# Altium footprint library Converter_DCDC.PcbLib: 115 footprints (part 1 of 8)
Each footprint in its own frame and in the unit in brackets; x right, y up, seen from the top. Pads: shape width x height; smd on the part's side, far side on the other; paste and mask are expansions set on the pad; w line width, h text height; cw(c..) or ccw(c..) is an arc to the next point about the centre after c.
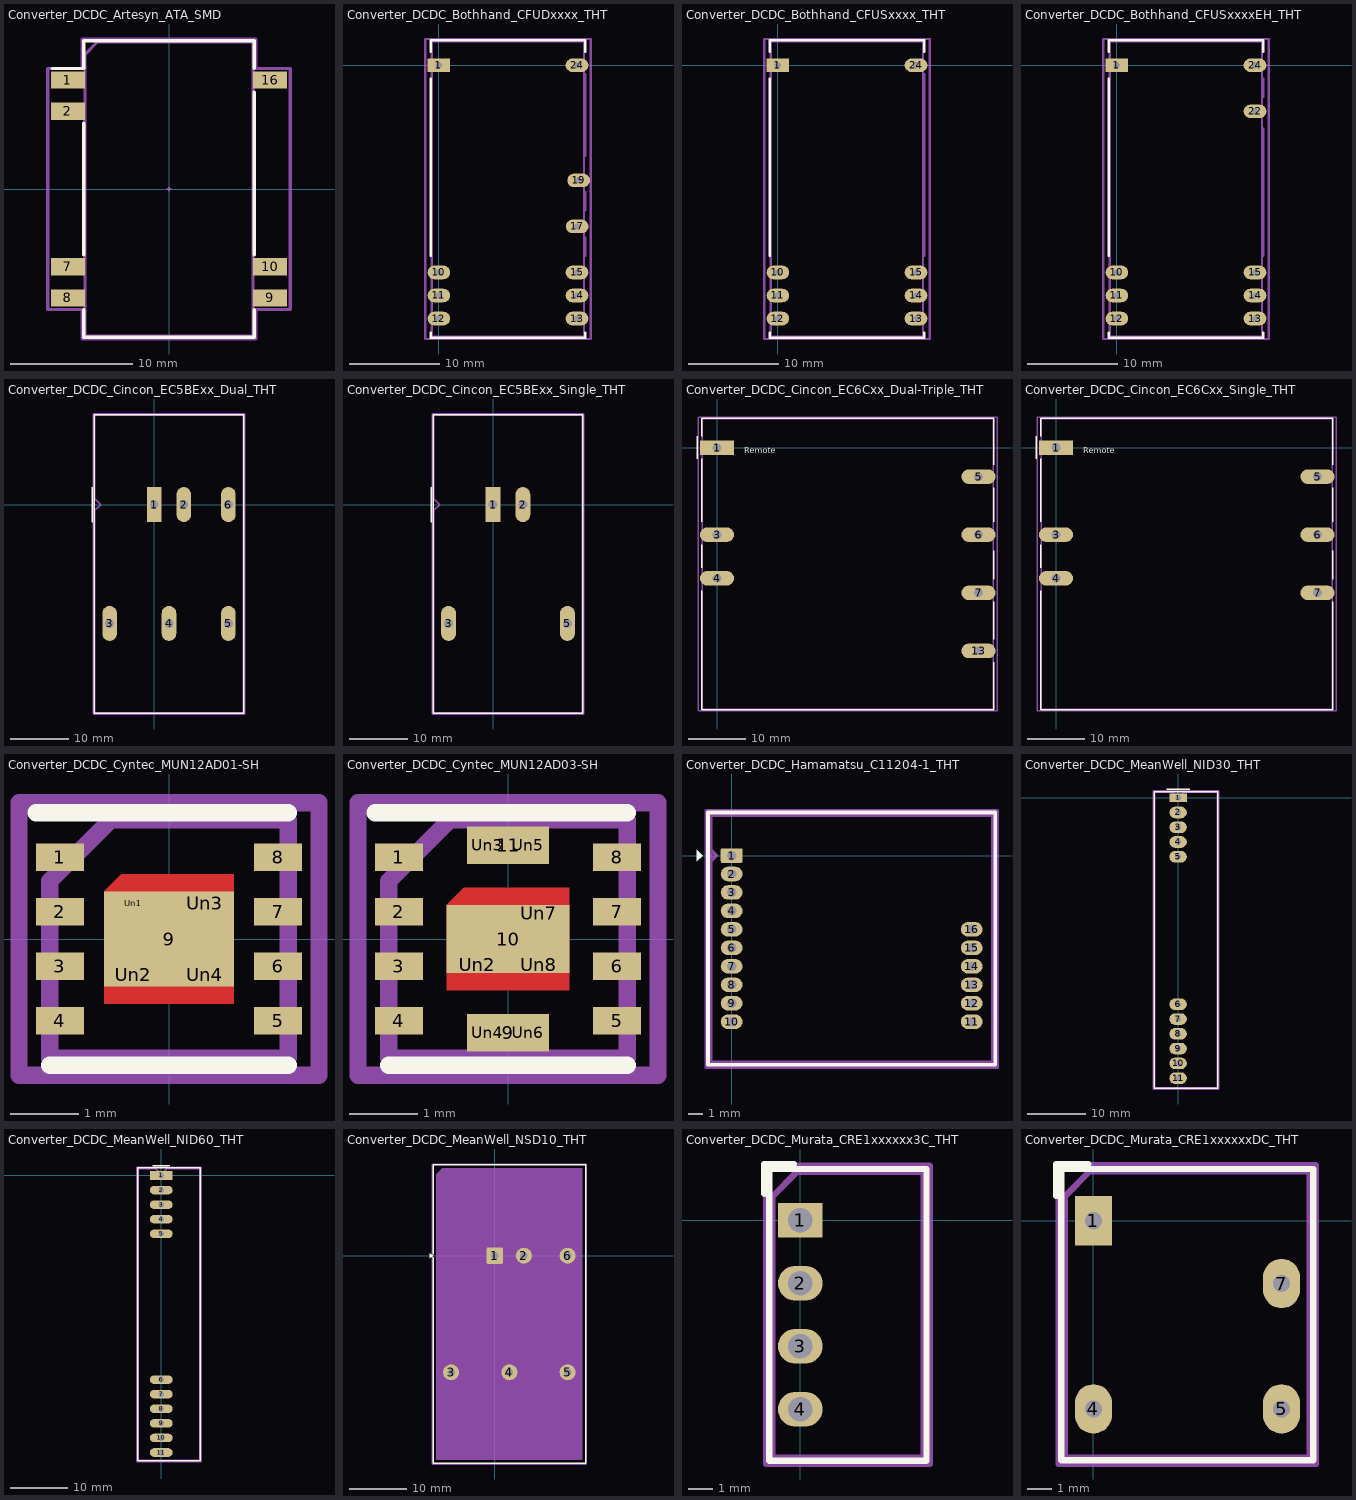
[diagram p0: the footprints below, top view; thin cyan lines are the x and y axes]

## Converter_DCDC_Artesyn_ATA_SMD [mm]
pads (7):
  rect 2.8x1.4 smd: 1(-8.25,8.89) 2(-8.25,6.35) 7(-8.25,-6.35) 8(-8.25,-8.89) 9(8.25,-8.89) 10(8.25,-6.35) 16(8.25,8.89)
F.SilkS:
  lines w0.254: -9.55,9.84 -6.96,9.84 -6.96,12.11 6.96,12.11 6.96,9.84 ; -6.96,-9.84 -6.96,-12.11 6.96,-12.11 6.96,-9.84 ; -6.96,-5.39 -6.96,5.4 ; 6.96,-5.4 6.96,7.93
Top Component Center:
  lines w0.127: -0.127,0 0.127,0 ; 0,-0.127 0,0.127
Top Assembly:
  lines w0.254: -6.85,-12 6.85,-12 6.85,12 -5.85,12 -6.85,11 -6.85,-12
  text "'.Designator'" at -4.047,-0.84 h1
Top Courtyard:
  lines w0.254: -9.9,-9.84 -7.1,-9.84 -7.1,-12.25 7.1,-12.25 7.1,-9.84 9.9,-9.84 9.9,9.84 7.1,9.84 7.1,12.25 -7.1,12.25 -7.1,9.84 -9.9,9.84 -9.9,-9.84
Top Designator:
  text ".Designator" at -7.618,-0.508 h1.52

## Converter_DCDC_Bothhand_CFUDxxxx_THT [mm]
pads (10):
  rect 2.5x1.5 hole 0.7: 1(0,0)
  rrect100% 2.5x1.5 hole 0.7: 10(0,-22.86) 11(0,-25.4) 12(0,-27.94) 13(15.24,-27.94) 14(15.24,-25.4) 15(15.24,-22.86) 17(15.26,-17.78) 19(15.42,-12.7) 24(15.24,0)
F.SilkS:
  lines w0.254: -0.9,-29.5 -0.9,-30.07 16.14,-30.07 16.14,-29.5 ; -0.9,-21 -0.9,-1.5 ; -0.9,1.5 -0.9,2.77 16.14,2.77 16.14,1.5
Top Assembly:
  lines w0.254: 16.02,-21 16.02,-19.5 ; 16.02,-16 16.02,-14.5 ; 16.14,-21 16.14,-19 ; 16.14,-16 16.14,-14 ; 16.14,-10 16.14,-1 ; -0.78,-29.95 16.02,-29.95 16.02,2.65 -0.78,2.65 -0.78,-29.95
  text "'.Designator'" at 3.573,-12.84 h1
Top Courtyard:
  lines w0.254: -1.5,-30.2 16.75,-30.2 16.75,2.9 -1.5,2.9 -1.5,-30.2
Top Designator:
  text ".Designator" at 0.007,-14.158 h1.52

## Converter_DCDC_Bothhand_CFUSxxxx_THT [mm]
pads (8):
  rect 2.5x1.5 hole 0.7: 1(0,0)
  rrect100% 2.5x1.5 hole 0.7: 10(0,-22.86) 11(0,-25.4) 12(0,-27.94) 13(15.24,-27.94) 14(15.24,-25.4) 15(15.24,-22.86) 24(15.24,0)
F.SilkS:
  lines w0.254: -0.9,-29.5 -0.9,-30.07 16.14,-30.07 16.14,-29.5 ; -0.9,-21 -0.9,-1.5 ; -0.9,1.5 -0.9,2.77 16.14,2.77 16.14,1.5
Top Assembly:
  lines w0.254: 16.02,-21 16.02,-19.5 ; 16.02,-16 16.02,-14.5 ; 16.14,-21 16.14,-1 ; -0.78,-29.95 16.02,-29.95 16.02,2.65 -0.78,2.65 -0.78,-29.95
  text "'.Designator'" at 3.573,-12.84 h1
Top Courtyard:
  lines w0.254: -1.5,-30.2 16.75,-30.2 16.75,2.9 -1.5,2.9 -1.5,-30.2
Top Designator:
  text ".Designator" at 0.007,-14.158 h1.52

## Converter_DCDC_Bothhand_CFUSxxxxEH_THT [mm]
pads (9):
  rect 2.5x1.5 hole 0.7: 1(0,0)
  rrect100% 2.5x1.5 hole 0.7: 10(0,-22.86) 11(0,-25.4) 12(0,-27.94) 13(15.24,-27.94) 14(15.24,-25.4) 15(15.24,-22.86) 22(15.24,-5.08) 24(15.24,0)
F.SilkS:
  lines w0.254: -0.9,-29.5 -0.9,-30.07 16.14,-30.07 16.14,-29.5 ; -0.9,-21 -0.9,-1.5 ; -0.9,1.5 -0.9,2.77 16.14,2.77 16.14,1.5
Top Assembly:
  lines w0.254: 16.02,-21 16.02,-19.5 ; 16.02,-16 16.02,-14.5 ; 16.14,-21 16.14,-7 ; 16.14,-3.5 16.14,-1.5 ; -0.78,-29.95 16.02,-29.95 16.02,2.65 -0.78,2.65 -0.78,-29.95
  text "'.Designator'" at 3.573,-12.84 h1
Top Courtyard:
  lines w0.254: -1.5,-30.2 16.75,-30.2 16.75,2.9 -1.5,2.9 -1.5,-30.2
Top Designator:
  text ".Designator" at 0.007,-14.158 h1.52

## Converter_DCDC_Cincon_EC5BExx_Dual_THT [mm]
pads (6):
  rect 2.5x6 hole 1.5: 1(0,0)
  rrect100% 2.5x6 hole 1.5: 2(5.08,0) 3(-7.62,-20.32) 4(2.54,-20.32) 5(12.7,-20.32) 6(12.7,0)
F.SilkS:
  lines w0.254: -10.61,-3 -10.61,3 ; -10.28,-35.68 15.36,-35.68 15.36,15.36 -10.28,15.36 -10.28,-35.68
Top Assembly:
  lines w0.254: -10.16,-35.56 15.24,-35.56 15.24,15.24 2.54,15.24 -10.16,15.24 -10.16,1 -9.16,0 -10.16,-1 -10.16,-35.56
  text "'.Designator'" at -1.417,-11.58 h1
Top Courtyard:
  lines w0.254: -10.41,-35.81 15.49,-35.81 15.49,15.49 -10.41,15.49 -10.41,-35.8
Top Designator:
  text ".Designator" at -5.178,-10.668 h1.52

## Converter_DCDC_Cincon_EC5BExx_Single_THT [mil]
pads (4):
  rect 100x236 hole 60: 1(0,0)
  rrect100% 100x236.22 hole 60: 2(200,0) 3(-300,-800) 5(500,-800)
F.SilkS:
  lines w10: -417.72,-118.11 -417.72,118.11 ; -404.72,-1404.72 604.72,-1404.72 604.72,604.72 -404.72,604.72 -404.72,-1404.72
Top Assembly:
  lines w10: -400,-1400 600,-1400 600,600 100,600 -400,600 -400,39.37 -360.63,0 -400,-39.37 -400,-1400
  text "'.Designator'" at -55.78,-455.92 h39.37
Top Courtyard:
  lines w10: -409.84,-1409.84 609.84,-1409.84 609.84,609.84 -409.84,609.84 -409.84,-1409.45
Top Designator:
  text ".Designator" at -203.84,-419.99 h60

## Converter_DCDC_Cincon_EC6Cxx_Dual-Triple_THT [mm]
pads (7):
  rect 5.999x2.54 hole 1.5: 1(0,0)
  rrect100% 6x2.54 hole 1.5: 3(0,-15.24) 4(0,-22.86) 6(45.72,-15.24) 7(45.72,-25.4) 13(45.72,-35.56)
  rrect100% 5.999x2.54 hole 1.5: 5(45.72,-5.08)
F.SilkS:
  lines w0.254: -3.5,-2 -3.5,2 ; -2.66,-25 -2.66,-45.88 48.38,-45.88 48.38,-37.5 ; -2.66,-21 -2.66,-17 ; -2.66,-13 -2.66,-2 ; -2.66,2 -2.66,5.16 48.38,5.16 48.38,-3 ; 48.38,-33.5 48.38,-27 ; 48.38,-23 48.38,-18 ; 48.38,-13 48.38,-7
  text "Remote" at 4.779,-1.041 h1
Top Assembly:
  lines w0.254: -2.54,-45.76 48.26,-45.76 48.26,5.04 -2.54,5.04 -2.54,1 -1.54,0 -2.54,-1 -2.54,-45.76
  text "'.Designator'" at 17.963,-20.47 h1
Top Courtyard:
  lines w0.254: -3.25,-46.01 48.95,-46.01 48.95,5.29 -3.25,5.29 -3.25,-46.01
Top Designator:
  text ".Designator" at 15.107,-20.868 h1.52

## Converter_DCDC_Cincon_EC6Cxx_Single_THT [mil]
pads (6):
  rect 236.2x100 hole 60: 1(0,0)
  rrect100% 236.22x100 hole 60: 3(0,-600) 4(0,-900) 6(1800,-600) 7(1800,-1000)
  rrect100% 236.2x100 hole 60: 5(1800,-200)
F.SilkS:
  lines w10: -137.8,-78.74 -137.8,78.74 ; -104.72,-984.25 -104.72,-1806.3 1904.72,-1806.3 1904.72,-1062.99 ; -104.72,-826.77 -104.72,-669.29 ; -104.72,-511.81 -104.72,-78.74 ; -104.72,78.74 -104.72,203.15 1904.72,203.15 1904.72,-118.11 ; 1904.72,-905.51 1904.72,-708.66 ; 1904.72,-511.81 1904.72,-275.59
  text "Remote" at 188.14,-40.97 h39.37
Top Assembly:
  lines w10: -100,-1801.57 1900,-1801.57 1900,198.43 -100,198.43 -100,39.37 -60.63,0 -100,-39.37 -100,-1801.57
  text "'.Designator'" at 707.21,-805.92 h39.37
Top Courtyard:
  lines w10: -127.95,-1811.42 1927.17,-1811.42 1927.17,208.27 -127.95,208.27 -127.95,-1811.42
Top Designator:
  text ".Designator" at 594.78,-821.57 h60

## Converter_DCDC_Cyntec_MUN12AD01-SH [mm]
pads (13):
  rect 0.7x0.4 smd: 1(-1.6,1.2) 2(-1.6,0.4) 3(-1.6,-0.4) 4(-1.6,-1.2) 5(1.6,-1.2) 6(1.6,-0.4) 7(1.6,0.4) 8(1.6,1.2)
  rect 1.9x1.4 smd: 9(0,0)
  rect 0.3x0.3 on Top Paste: Un1(-0.525,0.525)
  rect 0.75x0.75 on Top Paste: Un2(-0.525,-0.525) Un3(0.525,0.525) Un4(0.525,-0.525)
F.Cu:
  region: 0.95,-0.95 -0.95,-0.95 -0.95,0.7 -0.7,0.95 0.95,0.95
F.SilkS:
  lines w0.254: -1.95,1.85 1.75,1.85 ; -1.75,-1.85 1.75,-1.85
F.Paste:
  region: -0.15,0.15 -0.9,0.15 -0.9,0.65 -0.65,0.9 -0.15,0.9
F.Mask:
  region: 0.95,-0.95 -0.95,-0.95 -0.95,0.7 -0.7,0.95 0.95,0.95
Top Assembly:
  lines w0.254: -1.75,-1.75 1.75,-1.75 1.75,1.75 -0.85,1.75 -1.75,0.85 -1.75,-1.75
  text "'.Designator'" at -3.033,-0.628 h0.75
Top Courtyard:
  lines w0.254: -2.2,-2 2.2,-2 2.2,2 -2.2,2 -2.2,-2
Top Designator:
  text ".Designator" at -7.728,-0.508 h1.52

## Converter_DCDC_Cyntec_MUN12AD03-SH [mm]
pads (19):
  rect 0.7x0.4 smd: 1(-1.6,1.2) 2(-1.6,0.4) 3(-1.6,-0.4) 4(-1.6,-1.2) 5(1.6,-1.2) 6(1.6,-0.4) 7(1.6,0.4) 8(1.6,1.2)
  rect 1.2x0.55 smd: 9(0,-1.375) 11(0,1.375)
  rect 1.8x1 smd: 10(0,0)
  rect 0.75x0.1 on Top Paste: Un1(-0.45,0.375)
  rect 0.75x0.6 on Top Paste: Un2(-0.45,-0.375) Un7(0.45,0.375) Un8(0.45,-0.375)
  rect 0.45x0.55 on Top Paste: Un3(-0.3,1.375) Un4(-0.3,-1.375) Un5(0.3,1.375) Un6(0.3,-1.375)
F.Cu:
  region: 0.9,-0.75 -0.9,-0.75 -0.9,0.5 -0.65,0.75 0.9,0.75
F.SilkS:
  lines w0.254: -1.95,1.85 1.75,1.85 ; -1.75,-1.85 1.75,-1.85
F.Paste:
  region: -0.075,0.075 -0.825,0.075 -0.825,0.425 -0.575,0.675 -0.075,0.675
F.Mask:
  region: 0.9,-0.75 -0.9,-0.75 -0.9,0.5 -0.65,0.75 0.9,0.75
Top Assembly:
  lines w0.254: -1.75,-1.75 1.75,-1.75 1.75,1.75 -0.85,1.75 -1.75,0.85 -1.75,-1.75
  text "'.Designator'" at -3.033,-0.628 h0.75
Top Courtyard:
  lines w0.254: -2.2,-2 2.2,-2 2.2,2 -2.2,2 -2.2,-2
Top Designator:
  text ".Designator" at -7.728,-0.508 h1.52

## Converter_DCDC_Hamamatsu_C11204-1_THT [mm]
pads (16):
  rrect19% 1.5x1 hole 0.65: 1(0,0)
  rrect100% 1.5x1 hole 0.65: 2(0,-1.27) 3(0,-2.54) 4(0,-3.81) 5(0,-5.08) 6(0,-6.35) 7(0,-7.62) 8(0,-8.89) 9(0,-10.16) 10(0,-11.43) 11(16.51,-11.43) 12(16.51,-10.16) 13(16.51,-8.89) 14(16.51,-7.62) 15(16.51,-6.35) 16(16.51,-5.08)
F.SilkS:
  region: -2,0 -2.381,-0.381 -2.381,0.381
  lines w0.254: -1.625,-14.395 18.135,-14.395 18.135,2.965 -1.625,2.965 -1.625,-14.395
Top Assembly:
  lines w0.254: -1.435,-0.381 -1.054,0 -1.435,0.381 ; -1.445,-14.215 17.955,-14.215 17.955,2.785 -1.445,2.785 -1.445,-14.215
  text "'.Designator'" at 4.208,-6.555 h1
Top Courtyard:
  lines w0.254: -1.75,-14.54 18.25,-14.54 18.25,3.06 -1.75,3.06 -1.75,-14.54
Top Designator:
  text ".Designator" at 0.38,-6.248 h1.52
Cmts.User:
  text "Isolation Keepout" at 2.071,-13.299 h0.1
  text "Isolation Keepout" at 13.271,1.701 h0.1
  text "Isolation Keepout" at 2.071,1.701 h0.1
  text "Isolation Keepout" at 13.271,-13.299 h0.1

## Converter_DCDC_MeanWell_NID30_THT [mm]
pads (11):
  rect 3x1.5 hole 1: 1(0,0)
  rrect100% 3x2 hole 1: 2(0,-2.54) 3(0,-5.08) 4(0,-7.62) 5(0,-10.16) 6(0,-35.56) 7(0,-38.1) 8(0,-40.64) 9(0,-43.18) 10(0,-45.72) 11(0,-48.26)
F.SilkS:
  lines w0.254: -2,1.42 2,1.42 ; -4.12,-50 6.82,-50 6.82,1.04 -4.12,1.04 -4.12,-50
Top Assembly:
  lines w0.254: -4,-49.88 6.7,-49.88 6.7,0.92 1,0.92 0,-0.08 -1,0.92 -4,0.92 -4,-49.88
  text "'.Designator'" at -3.347,-23.94 h1
Top Courtyard:
  lines w0.254: -4.25,-50.13 6.95,-50.13 6.95,1.17 -4.25,1.17 -4.25,-50.13
Top Designator:
  text ".Designator" at -6.268,-24.863 h1.52

## Converter_DCDC_MeanWell_NID60_THT [mm]
pads (11):
  rect 4x1.5 hole 1: 1(0,0)
  rrect100% 4x1.5 hole 1: 2(0,-2.54) 3(0,-5.08) 4(0,-7.62) 5(0,-10.16) 6(0,-35.56) 7(0,-38.1) 8(0,-40.64) 9(0,-43.18) 10(0,-45.72) 11(0,-48.26)
F.SilkS:
  lines w0.254: -1.5,1.7 1.5,1.7 ; -4.12,-49.72 6.82,-49.72 6.82,1.32 -4.12,1.32 -4.12,-49.72
Top Assembly:
  lines w0.254: -4,-49.6 6.7,-49.6 6.7,1.2 1,1.2 0,0.2 -1,1.2 -4,1.2 -4,-49.6
  text "'.Designator'" at -3.047,-24.97 h1
Top Courtyard:
  lines w0.254: -4.25,-49.85 6.95,-49.85 6.95,1.45 -4.25,1.45 -4.25,-49.85
Top Designator:
  text ".Designator" at -6.268,-24.583 h1.52

## Converter_DCDC_MeanWell_NSD10_THT [mm]
pads (6):
  rrect9% 2.8x2.8 hole 1.3: 1(0,0)
  round 2.8 hole 1.3: 2(5.08,0) 3(-7.62,-20.32) 4(2.54,-20.32) 5(12.7,-20.32) 6(12.7,0)
F.SilkS:
  region: -10.77,0 -11.38,-0.44 -11.38,0.44
  lines w0.254: -10.77,-0.296 -10.77,-36.17 15.85,-36.17 15.85,15.85 -10.77,15.85 -10.77,0.296
Top Assembly:
  region: 15.24,-35.56 -10.16,-35.56 -10.16,14.24 -9.16,15.24 15.24,15.24
  text "'.Designator'" at -1.507,-11 h1
Top Courtyard:
  lines w0.254: -10.91,-36.31 15.99,-36.31 15.99,15.99 -10.91,15.99 -10.91,-36.31
Top Designator:
  text ".Designator" at -5.249,-10.668 h1.52

## Converter_DCDC_Murata_CRE1xxxxxx3C_THT [mm]
pads (4):
  rect 1.8x1.4 hole 1: 1(0,0)
  rrect100% 1.8x1.4 hole 1: 2(0,-2.54) 3(0,-5.08) 4(0,-7.62)
F.SilkS:
  lines w0.254: -1.45,1.07 -1.45,2.27 -0.25,2.27 ; -1.25,-9.7 5.09,-9.7 5.09,2.07 -1.25,2.07 -1.25,-9.7
Top Assembly:
  lines w0.254: -1.13,-9.58 4.97,-9.58 4.97,1.95 -0.13,1.95 -1.13,0.95 -1.13,-9.58
  text "'.Designator'" at 3.84,-8.047 h1
Top Courtyard:
  lines w0.254: -1.38,-9.83 5.22,-9.83 5.22,2.2 -1.38,2.2 -1.38,-9.83
Top Designator:
  text ".Designator" at -5.733,-4.288 h1.52

## Converter_DCDC_Murata_CRE1xxxxxxDC_THT [mm]
pads (4):
  rect 1.5x2 hole 0.7: 1(0,0)
  rrect100% 1.5x2 hole 0.7: 4(0,-7.62) 5(7.62,-7.62) 7(7.62,-2.54)
F.SilkS:
  lines w0.254: -1.5,1 -1.5,2.3 -0.2,2.3 ; -1.3,-9.7 8.9,-9.7 8.9,2.1 -1.3,2.1 -1.3,-9.7
Top Assembly:
  lines w0.254: -1.15,-9.6 8.75,-9.6 8.75,2 -0.15,2 -1.15,1 -1.15,-9.6
  text "'.Designator'" at -0.237,-4.65 h1
Top Courtyard:
  lines w0.254: -1.4,-9.85 9,-9.85 9,2.25 -1.4,2.25 -1.4,-9.85
Top Designator:
  text ".Designator" at -3.868,-4.283 h1.52